# Altium footprint library 边缘网关-17KF4-END1.PcbLib: 29 footprints (part 1 of 2)
Each footprint in its own frame and in the unit in brackets; x right, y up, seen from the top. Pads: shape width x height; smd on the part's side, far side on the other; paste and mask are expansions set on the pad; w line width, h text height; cw(c..) or ccw(c..) is an arc to the next point about the centre after c.
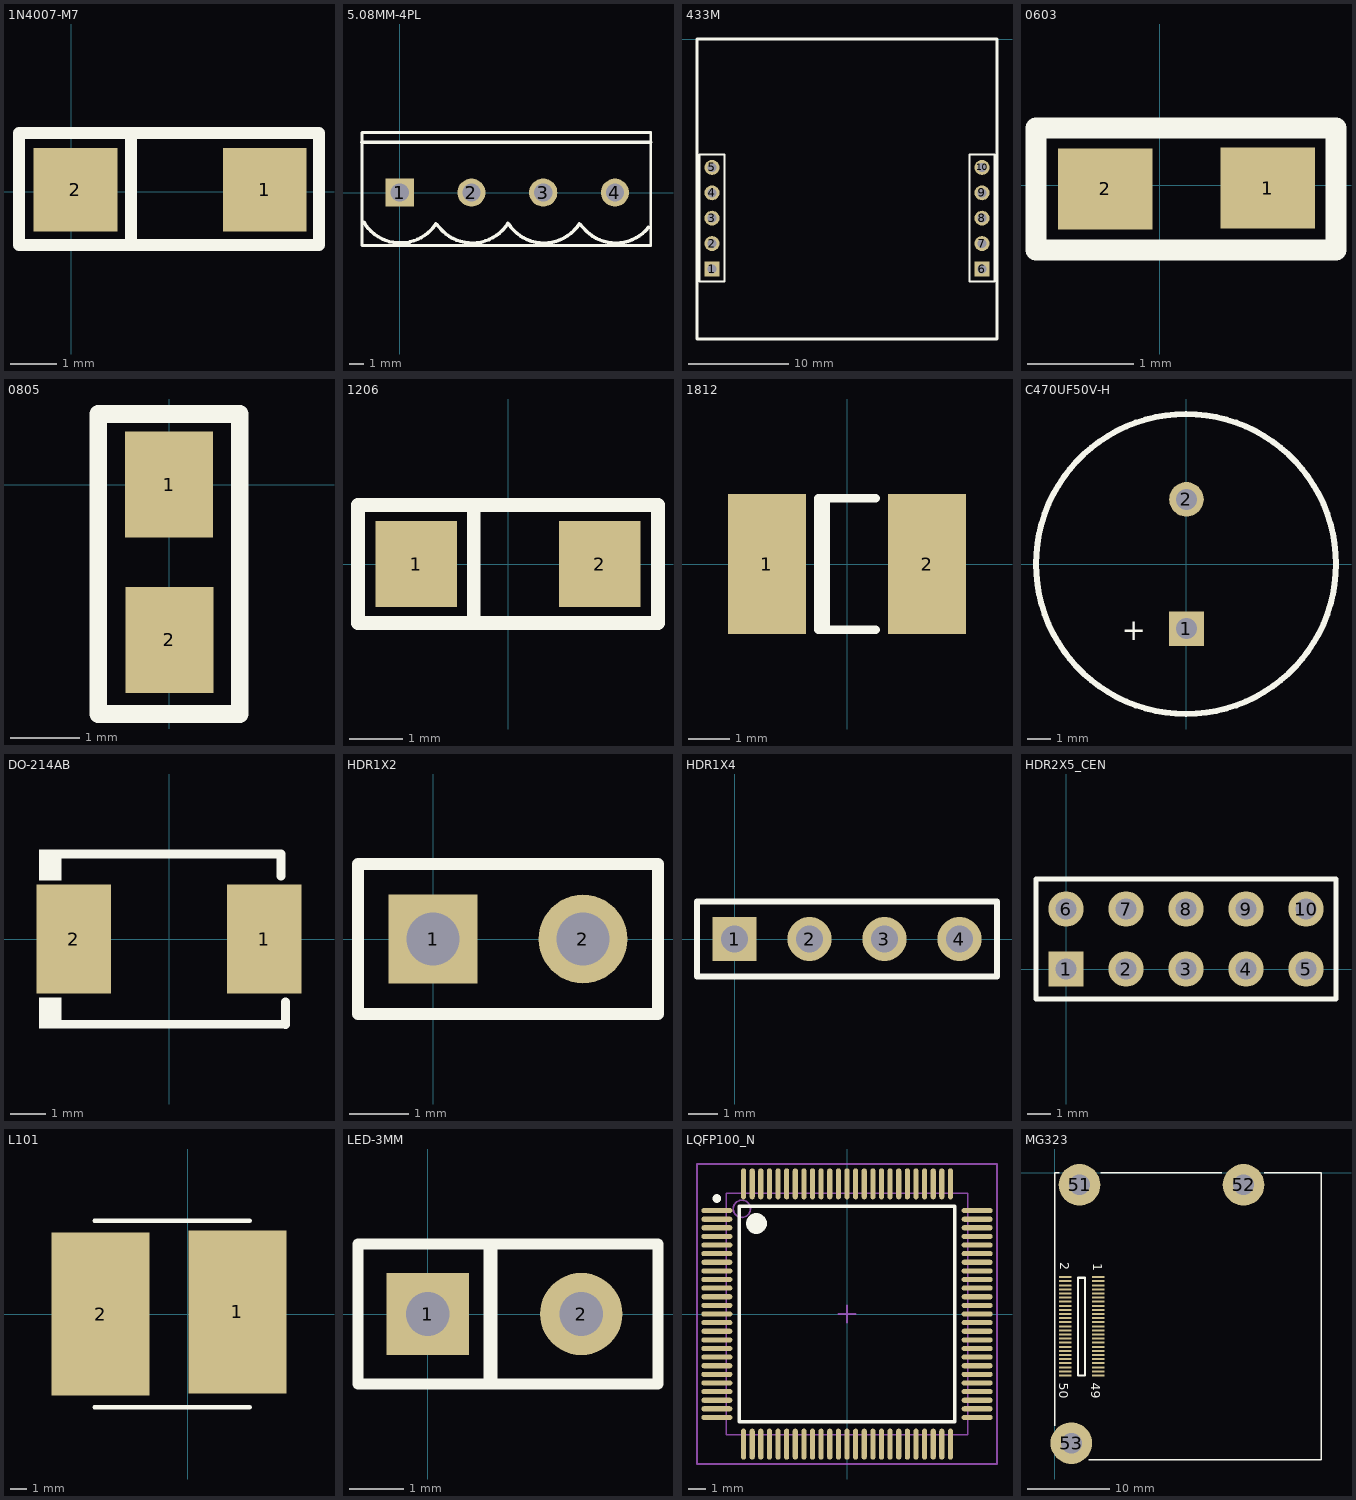
[diagram p0: the footprints below, top view; thin cyan lines are the x and y axes]

## 1N4007-M7 [mm]
pads (2):
  rect 1.8x1.8 smd: 1(4.166,0.05) 2(0.096,0.05)
Top Overlay:
  lines w0.254: 1.29,1.173 1.29,-1.143 ; 1.29,-1.143 -1.119,-1.143 -1.119,1.27 5.334,1.27 5.334,-1.143 1.29,-1.143

## 5.08MM-4PL [mm]
pads (4):
  rect 2x2 hole 1.3: 1(0,0)
  round 2 hole 1.3: 2(5.08,0) 3(10.16,0) 4(15.24,0)
Top Overlay:
  lines w0.2: -2.667,-3.75 -2.667,4.25 2.445,4.25 12.668,4.25 17.78,4.25 17.78,-3.75 -2.667,-3.75
  lines w0.25: -2.537,-2.097 ccw(c0.048,-0.575) 2.562,-2.213 ; 2.655,-2.274 ccw(c5.128,-0.575) 7.656,-2.19 ; 7.696,-2.215 ccw(c10.208,-0.575) 12.722,-2.213 ; 12.815,-2.274 ccw(c15.288,-0.575) 17.613,-2.471
  lines w0.254: -2.667,3.556 17.78,3.556

## 433M [mm]
pads (10):
  rect 1.5x1.5 hole 0.9: 1(3.5,-23) 6(30.5,-23)
  round 1.5 hole 0.9: 2(3.5,-20.46) 3(3.5,-17.92) 4(3.5,-15.38) 5(3.5,-12.84) 7(30.5,-20.46) 8(30.5,-17.92) 9(30.5,-15.38) 10(30.5,-12.84)
Top Overlay:
  lines w0.2: 2.23,-24.27 4.77,-24.27 4.77,-11.57 2.23,-11.57 2.23,-24.27 ; 29.23,-24.27 31.77,-24.27 31.77,-11.57 29.23,-11.57 29.23,-24.27
  lines w0.254: 2,-30 2,0 32,0 32,-30 2,-30

## 0603 [mil] "0603"
pads (2):
  rect 35x30 smd: 1(40,-1) 2(-20.23,-1.34)
Top Overlay:
  lines w7.87: -45.88,-24 -45.88,21.3 65.35,21.3 65.35,-24 -45.88,-24

## 0805 [mil]
pads (2):
  rect 50x60 smd: 1(0,0) 2(0.28,-88.04)
Top Overlay:
  lines w10: -40,-130 40,-130 40,-95.04 40,40 -40,40 -40,-95 -40,-130

## 1206 [mm]
pads (2):
  rect 1.52x1.6 smd: 1(-1.71,0) 2(1.71,0)
Top Overlay:
  lines w0.254: -2.794,-1.016 -2.794,1.016 ; -0.635,-1.016 -0.635,1.016 ; -2.794,-1.1 -2.794,1.1 2.794,1.1 2.794,-1.1 1.416,-1.1 -2.794,-1.1

## 1812 [mm] "Chip Capacitor; Body 4.5 x 3.2 mm (LxW typ)"
height 1.1
pads (2):
  rect 1.9x3.4 smd: 1(-1.95,0) 2(1.95,0)
Top Overlay:
  lines w0.2: -0.51,-1.6 -0.51,1.6 ; 0.7,-1.6 -0.7,-1.6 -0.7,1.6 0.7,1.6

## C470UF50V-H [mm]
pads (2):
  rect 1.5x1.5 hole 0.9: 1(0.02,-2.8)
  round 1.5 hole 0.9: 2(0.02,2.8)
Top Overlay:
  circle w0.254: c0,0 r6.5
  text "+" at -2.794,-3.302 h0.91

## DO-214AB [mm]
height 2.54
pads (2):
  rect 2.1x3.1 smd: 1(2.7,0) 2(-2.7,0)
Top Overlay:
  rectangle: -3.683,1.651 -3.048,2.54
  rectangle: -3.683,-2.54 -3.048,-1.651
  lines w0.254: -3.429,2.413 3.171,2.407 ; -3.302,-2.413 3.302,-2.419 3.302,-1.778 ; 3.175,1.778 3.175,2.413

## HDR1X2 [mm] "Connector; Header; 2 Position"
pads (2):
  rect 1.5x1.5 hole 0.9: 1(0,0)
  round 1.5 hole 0.9: 2(2.54,0)
Top Overlay:
  lines w0.2: -1.27,-1.27 -1.27,1.27 3.81,1.27 3.81,-1.27 -1.27,-1.27

## HDR1X4 [mm] "Connector; Header; 4 Position"
pads (4):
  rect 1.5x1.5 hole 0.9: 1(0,0)
  round 1.5 hole 0.9: 2(2.54,0) 3(5.08,0) 4(7.62,0)
Top Overlay:
  lines w0.2: -1.27,-1.27 8.89,-1.27 8.89,1.27 -1.27,1.27 -1.27,-1.27

## HDR2X5_CEN [mm] "Connector; Header; 5x2 Position"
pads (10):
  rect 1.5x1.5 hole 0.9: 1(0,0)
  round 1.5 hole 0.9: 2(2.54,0) 3(5.08,0) 4(7.62,0) 5(10.16,0) 6(0,2.54) 7(2.54,2.54) 8(5.08,2.54) 9(7.62,2.54) 10(10.16,2.54)
Top Overlay:
  lines w0.2: -1.27,-1.27 11.43,-1.27 11.43,3.81 -1.27,3.81 -1.27,-1.27

## L101 [mm]
height 2.54
pads (2):
  rect 6x10 smd: 1(3.056,0.127) 2(-5.342,0)
Top Overlay:
  lines w0.254: -5.715,-5.715 3.81,-5.715 ; -5.715,5.715 3.81,5.715

## LED-3MM [mm] "Connector; Header; 5 Position"
pads (2):
  rect 1.5x1.5 hole 0.8: 1(0,0)
  round 1.5 hole 0.8: 2(2.794,0)
Top Overlay:
  lines w0.2: -1.27,-1.27 -1.27,1.27 4.191,1.27 4.191,-1.27 -1.27,-1.27
  lines w0.254: 1.143,-1.143 1.143,1.143

## LQFP100_N [mm]
pads (100):
  oval 1.8x0.3 smd: 1(-7.55,6) 2(-7.55,5.5) 3(-7.55,5) 4(-7.55,4.5) 5(-7.55,4) 6(-7.55,3.5) 7(-7.55,3) 8(-7.55,2.5) 9(-7.55,2) 10(-7.55,1.5) 11(-7.55,1) 12(-7.55,0.5) 13(-7.55,0) 14(-7.55,-0.5) 15(-7.55,-1) 16(-7.55,-1.5) 17(-7.55,-2) 18(-7.55,-2.5) 19(-7.55,-3) 20(-7.55,-3.5) 21(-7.55,-4) 22(-7.55,-4.5) 23(-7.55,-5) 24(-7.55,-5.5) 25(-7.55,-6) 51(7.55,-6) 52(7.55,-5.5) 53(7.55,-5) 54(7.55,-4.5) 55(7.55,-4) 56(7.55,-3.5) 57(7.55,-3) 58(7.55,-2.5) 59(7.55,-2) 60(7.55,-1.5) 61(7.55,-1) 62(7.55,-0.5) 63(7.55,0) 64(7.55,0.5) 65(7.55,1) 66(7.55,1.5) 67(7.55,2) 68(7.55,2.5) 69(7.55,3) 70(7.55,3.5) 71(7.55,4) 72(7.55,4.5) 73(7.55,5) 74(7.55,5.5) 75(7.55,6)
  oval 0.3x1.8 smd: 26(-6,-7.55) 27(-5.5,-7.55) 28(-5,-7.55) 29(-4.5,-7.55) 30(-4,-7.55) 31(-3.5,-7.55) 32(-3,-7.55) 33(-2.5,-7.55) 34(-2,-7.55) 35(-1.5,-7.55) 36(-1,-7.55) 37(-0.5,-7.55) 38(0,-7.55) 39(0.5,-7.55) 40(1,-7.55) 41(1.5,-7.55) 42(2,-7.55) 43(2.5,-7.55) 44(3,-7.55) 45(3.5,-7.55) 46(4,-7.55) 47(4.5,-7.55) 48(5,-7.55) 49(5.5,-7.55) 50(6,-7.55) 76(6,7.55) 77(5.5,7.55) 78(5,7.55) 79(4.5,7.55) 80(4,7.55) 81(3.5,7.55) 82(3,7.55) 83(2.5,7.55) 84(2,7.55) 85(1.5,7.55) 86(1,7.55) 87(0.5,7.55) 88(0,7.55) 89(-0.5,7.55) 90(-1,7.55) 91(-1.5,7.55) 92(-2,7.55) 93(-2.5,7.55) 94(-3,7.55) 95(-3.5,7.55) 96(-4,7.55) 97(-4.5,7.55) 98(-5,7.55) 99(-5.5,7.55) 100(-6,7.55)
Top Overlay:
  circle w0.6: c-5.25,5.25 r0.3
  circle w0.25: c-7.55,6.7 r0.125
  lines w0.2: -6.25,-6.25 6.25,-6.25 6.25,6.25 -6.25,6.25 -6.25,-6.25
Mechanical 13:
  circle w0.1: c-6.1,6.1 r0.5
  lines w0.1: -7,-7 7,-7 7,7 -7,7 -7,-7
Mechanical 15:
  lines w0.1: -0.5,0 0.5,0 ; 0,-0.5 0,0.5 ; -8.7,-8.7 8.7,-8.7 8.7,8.7 -8.7,8.7 -8.7,-8.7
3D body: height 1.6, standoff 0, extent -7,-7 7,7

## MG323 [mm]
height 0.254
pads (53):
  rect 1.524x0.25 smd: 1(5.25,-12.75) 2(1.25,-12.75) 3(5.25,-13.25) 4(1.25,-13.25) 5(5.25,-13.75) 6(1.25,-13.75) 7(5.25,-14.25) 8(1.25,-14.25) 9(5.25,-14.75) 10(1.25,-14.75) 11(5.25,-15.25) 12(1.25,-15.25) 13(5.25,-15.75) 14(1.25,-15.75) 15(5.25,-16.25) 16(1.25,-16.25) 17(5.25,-16.75) 18(1.25,-16.75) 19(5.25,-17.25) 20(1.25,-17.25) 21(5.25,-17.75) 22(1.25,-17.75) 23(5.25,-18.25) 24(1.25,-18.25) 25(5.25,-18.75) 26(1.25,-18.75) 27(5.25,-19.25) 28(1.25,-19.25) 29(5.25,-19.75) 30(1.25,-19.75) 31(5.25,-20.25) 32(1.25,-20.25) 33(5.25,-20.75) 34(1.25,-20.75) 35(5.25,-21.25) 36(1.25,-21.25) 37(5.25,-21.75) 38(1.25,-21.75) 39(5.25,-22.25) 40(1.25,-22.25) 41(5.25,-22.75) 42(1.25,-22.75) 43(5.25,-23.25) 44(1.25,-23.25) 45(5.25,-23.75) 46(1.25,-23.75) 47(5.25,-24.25) 48(1.25,-24.25) 49(5.25,-24.75) 50(1.25,-24.75)
  round 5.08 hole 2.54: 51(3,-1.5) 52(23,-1.5) 53(2,-33)
Top Overlay:
  lines w0.178: 0,-30.861 0,0 0.508,0 ; 4.139,-35 32.5,-35 32.5,0 25.527,0 ; 5.588,0 20.32,0
  lines w0.254: 2.794,-24.74 3.683,-24.74 3.683,-12.827 2.794,-12.827 2.794,-24.74
  text "1" at 4.699,-11.049 h1.1
  text "49" at 4.445,-25.654 h1.1
  text "50" at 0.508,-25.654 h1.1
  text "2" at 0.635,-10.922 h1.1